# EAGLE library part AD_16F690- (library microchip-special)
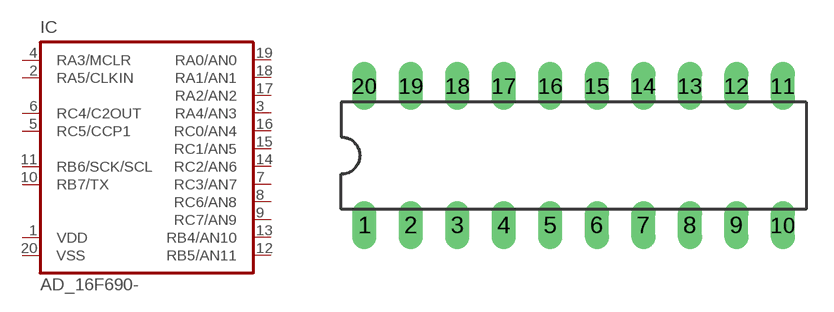
[diagram p3: symbol with the pads of DIL20; footprint DIL20]

Designator prefix IC

## AD_16F690-/P  [DIL20]
1  VDD  pwr
2  RA5/CLKIN
3  RA4/AN3
4  RA3/MCLR  in
5  RC5/CCP1
6  RC4/C2OUT
7  RC3/AN7
8  RC6/AN8
9  RC7/AN9
10  RB7/TX
11  RB6/SCK/SCL
12  RB5/AN11
13  RB4/AN10
14  RC2/AN6
15  RC1/AN5
16  RC0/AN4
17  RA2/AN2
18  RA1/AN1
19  RA0/AN0
20  VSS  pwr

## Footprint DIL20 (pad centres in mm)
Dual In Line Package
drill 0.813 long: 1 -11.43,-3.81; 2 -8.89,-3.81; 3 -6.35,-3.81; 4 -3.81,-3.81; 5 -1.27,-3.81; 6 1.27,-3.81; 7 3.81,-3.81; 8 6.35,-3.81; 9 8.89,-3.81; 10 11.43,-3.81; 11 11.43,3.81; 12 8.89,3.81; 13 6.35,3.81; 14 3.81,3.81; 15 1.27,3.81; 16 -1.27,3.81; 17 -3.81,3.81; 18 -6.35,3.81; 19 -8.89,3.81; 20 -11.43,3.81